# Altium footprint library bjts.PcbLib: 1 footprints
Each footprint in its own frame and in the unit in brackets; x right, y up, seen from the top. Pads: shape width x height; smd on the part's side, far side on the other; paste and mask are expansions set on the pad; w line width, h text height; cw(c..) or ccw(c..) is an arc to the next point about the centre after c.
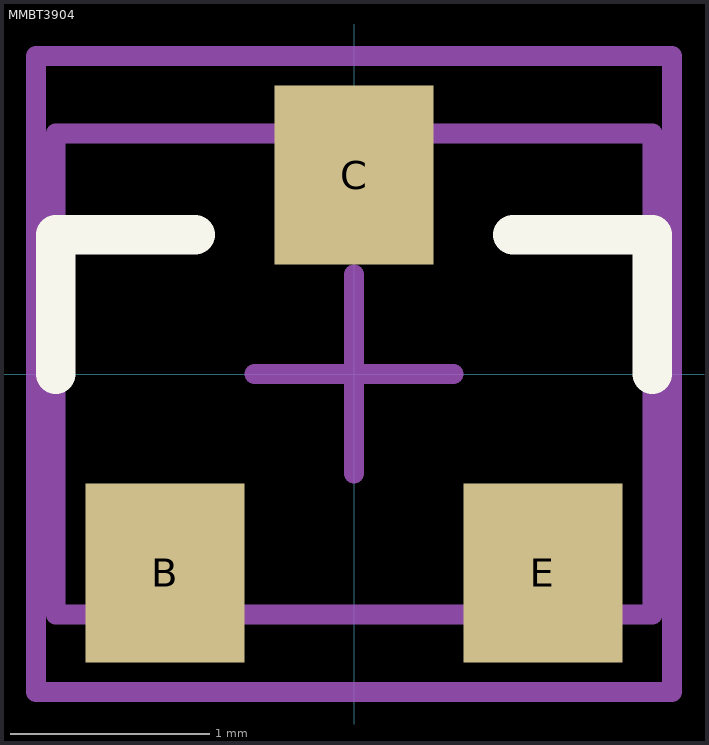
[diagram p0: the footprint, top view; thin cyan lines are the x and y axes]

## MMBT3904 [mm] "SOT-23-3"
height 1.025
pads (3):
  rect 0.8x0.9 smd: B(-0.95,-1) C(0,1) E(0.95,-1)
Top Overlay:
  lines w0.2: -1.5,0 -1.5,0.7 -0.8,0.7 ; 0.8,0.7 1.5,0.7 1.5,0
Top 3D Body:
  lines w0.1: -1.5,-1.21 1.5,-1.21 1.5,1.21 -1.5,1.21 -1.5,-1.21
Top Assembly:
  lines w0.1: -1.5,-1.21 1.5,-1.21 1.5,1.21 -1.5,1.21 -1.5,-1.21
Top Component Center:
  lines w0.1: -0.5,0 0.5,0 ; 0,-0.5 0,0.5
Top Courtyard:
  lines w0.1: -1.6,-1.6 1.6,-1.6 1.6,1.6 -1.6,1.6 -1.6,-1.6
Top Designator:
  text "''.Designator''" at 0,0 h2.5
Top Value:
  text "''.Comment''" at 0,0 h2.5
3D body "MMBT3904.STEP": height 1.12, standoff 0, extent -1.5,-1.21 1.5,1.21